# EAGLE library part L80-R (library Deegou_IC)
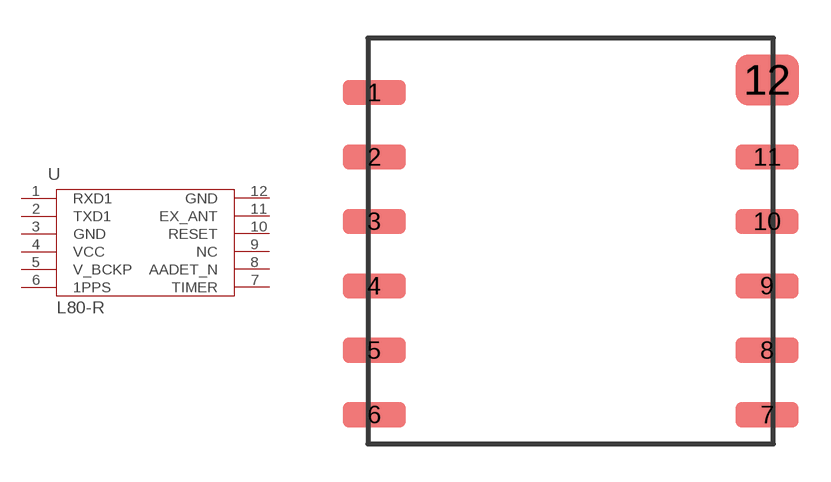
[diagram p83: symbol with the pads of L80-R; footprint L80-R]

Designator prefix U

## L80-R  [L80-R]
1  RXD1
2  TXD1
3  GND
4  VCC
5  V_BCKP
6  1PPS
7  TIMER
8  AADET_N
9  NC
10  RESET
11  EX_ANT
12  GND

## Footprint L80-R (pad centres in mm)
smd 2.5 x 1: 1 0.25,13.85; 2 0.25,11.31; 3 0.25,8.77; 4 0.25,6.23; 5 0.25,3.69; 6 0.25,1.15; 7 15.75,1.15; 8 15.75,3.69; 9 15.75,6.23; 10 15.75,8.77; 11 15.75,11.31
smd 2.5 x 2: 12 15.75,14.35